# Altium footprint library RAM3001.PcbLib: 12 footprints
Each footprint in its own frame and in the unit in brackets; x right, y up, seen from the top. Pads: shape width x height; smd on the part's side, far side on the other; paste and mask are expansions set on the pad; w line width, h text height; cw(c..) or ccw(c..) is an arc to the next point about the centre after c.
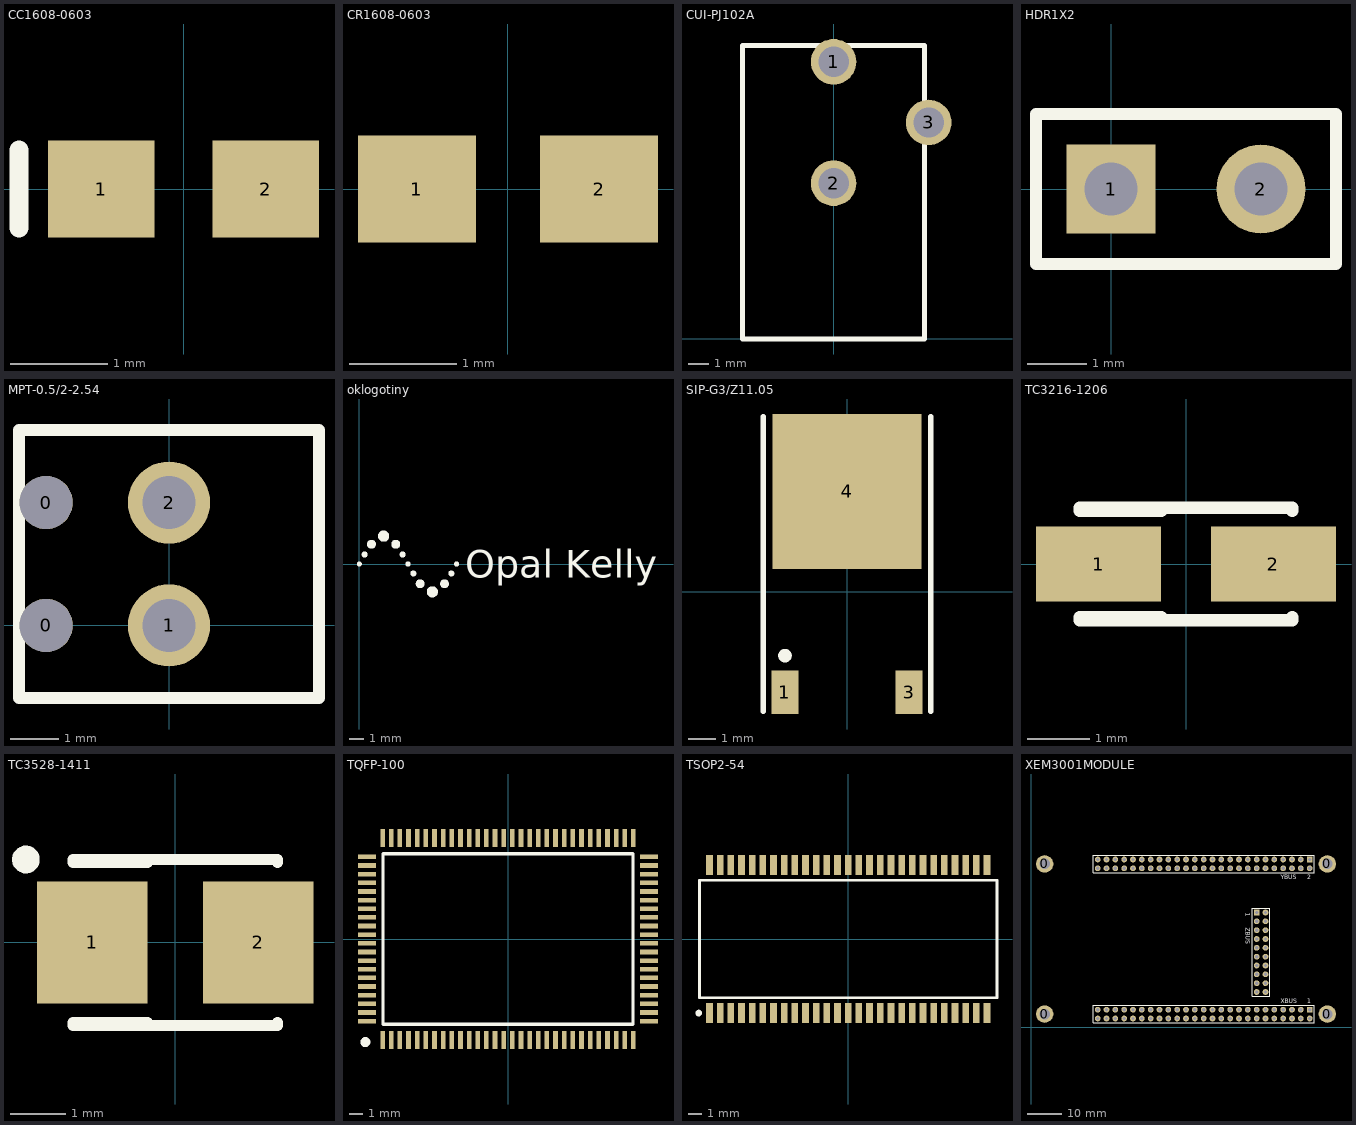
[diagram p0: the footprints below, top view; thin cyan lines are the x and y axes]

## CC1608-0603 [mm]
pads (2):
  rect 1.1x1 smd: 1(-0.85,0) 2(0.85,0)
Top Overlay:
  lines w0.2: -1.7,-0.4 -1.7,0.4

## CR1608-0603 [mm]
pads (2):
  rect 1.1x1 smd: 1(-0.85,0) 2(0.85,0)

## CUI-PJ102A [mm]
pads (3):
  round 2.25 hole 1.5: 1(0,13.7) 2(0,7.7) 3(4.7,10.7)
Top Overlay:
  lines w0.254: -4.5,0 4.5,0 4.5,14.5 -4.5,14.5 -4.5,0

## HDR1X2 [mm]
pads (2):
  rect 1.5x1.5 hole 0.9: 1(0,0)
  round 1.5 hole 0.9: 2(2.54,0)
Top Overlay:
  lines w0.2: -1.27,-1.27 3.81,-1.27 3.81,1.27 -1.27,1.27 -1.27,-1.27

## MPT-0.5/2-2.54 [mm]
pads (4):
  round 1.1 hole 1.1: 0(-2.54,0) 0(-2.54,2.54)
  round 1.7 hole 1.1: 1(0,0) 2(0,2.54)
Top Overlay:
  lines w0.254: -3.1,-1.5 -3.1,4.04 3.1,4.04 3.1,-1.5 -3.1,-1.5

## oklogotiny [mm]
Top Overlay:
  circle w0.21: c6.301,-0.648 r0.105
  circle w0.21: c3.7,-0.648 r0.105
  circle w0.21: c2.967,0.648 r0.105
  circle w0.305: c5.834,-1.353 r0.152
  circle w0.305: c4.167,-1.353 r0.152
  circle w0.305: c2.5,1.353 r0.152
  circle w0.381: c5.001,-1.905 r0.191
  circle w0.171: c6.667,0 r0.086
  circle w0.171: c3.334,0 r0.086
  circle w0.381: c1.667,1.905 r0.191
  circle w0.305: c0.833,1.353 r0.152
  circle w0.21: c0.367,0.648 r0.105
  circle w0.171: c0,0 r0.086
  text "Opal Kelly" at 7.239,-0.953 h1.91

## SIP-G3/Z11.05 [mm]
pads (3):
  rect 1x1.6 smd: 1(-2.285,-3.7) 3(2.285,-3.7)
  rect 5.5x5.7 smd: 4(0,3.7)
Top Overlay:
  circle w0.25: c-2.285,-2.35 r0.125
  lines w0.2: -3.085,-4.4 -3.085,6.45 ; 3.085,-4.4 3.085,6.45
3D body: height 2.38, standoff 0, extent -3.3,-1.35 3.3,4.75

## TC3216-1206 [mm]
pads (2):
  rect 2x1.2 smd: 1(-1.4,0) 2(1.4,0)
Top Overlay:
  lines w0.2: -1.7,-0.9 1.7,-0.9 1.7,-0.85 ; -1.7,-0.85 -0.4,-0.85 ; -1.7,0.85 -0.4,0.85 ; -1.7,0.9 1.7,0.9 1.7,0.85

## TC3528-1411 [mm]
pads (2):
  rect 2x2.2 smd: 1(-1.5,0) 2(1.5,0)
Top Overlay:
  circle w0.25: c-2.7,1.5 r0.125
  lines w0.2: -1.85,-1.5 1.85,-1.5 1.85,-1.45 ; -1.85,-1.45 -0.5,-1.45 ; -1.85,1.45 -0.5,1.45 ; -1.85,1.5 1.85,1.5 1.85,1.45

## TQFP-100 [mm]
pads (100):
  rect 0.35x1.35 smd: 1(-9.425,-7.6) 2(-8.775,-7.6) 3(-8.125,-7.6) 4(-7.475,-7.6) 5(-6.825,-7.6) 6(-6.175,-7.6) 7(-5.525,-7.6) 8(-4.875,-7.6) 9(-4.225,-7.6) 10(-3.575,-7.6) 11(-2.925,-7.6) 12(-2.275,-7.6) 13(-1.625,-7.6) 14(-0.975,-7.6) 15(-0.325,-7.6) 16(0.325,-7.6) 17(0.975,-7.6) 18(1.625,-7.6) 19(2.275,-7.6) 20(2.925,-7.6) 21(3.575,-7.6) 22(4.225,-7.6) 23(4.875,-7.6) 24(5.525,-7.6) 25(6.175,-7.6) 26(6.825,-7.6) 27(7.475,-7.6) 28(8.125,-7.6) 29(8.775,-7.6) 30(9.425,-7.6) 51(9.425,7.6) 52(8.775,7.6) 53(8.125,7.6) 54(7.475,7.6) 55(6.825,7.6) 56(6.175,7.6) 57(5.525,7.6) 58(4.875,7.6) 59(4.225,7.6) 60(3.575,7.6) 61(2.925,7.6) 62(2.275,7.6) 63(1.625,7.6) 64(0.975,7.6) 65(0.325,7.6) 66(-0.325,7.6) 67(-0.975,7.6) 68(-1.625,7.6) 69(-2.275,7.6) 70(-2.925,7.6) 71(-3.575,7.6) 72(-4.225,7.6) 73(-4.875,7.6) 74(-5.525,7.6) 75(-6.175,7.6) 76(-6.825,7.6) 77(-7.475,7.6) 78(-8.125,7.6) 79(-8.775,7.6) 80(-9.425,7.6)
  rect 1.35x0.35 smd: 31(10.6,-6.175) 32(10.6,-5.525) 33(10.6,-4.875) 34(10.6,-4.225) 35(10.6,-3.575) 36(10.6,-2.925) 37(10.6,-2.275) 38(10.6,-1.625) 39(10.6,-0.975) 40(10.6,-0.325) 41(10.6,0.325) 42(10.6,0.975) 43(10.6,1.625) 44(10.6,2.275) 45(10.6,2.925) 46(10.6,3.575) 47(10.6,4.225) 48(10.6,4.875) 49(10.6,5.525) 50(10.6,6.175) 81(-10.6,6.175) 82(-10.6,5.525) 83(-10.6,4.875) 84(-10.6,4.225) 85(-10.6,3.575) 86(-10.6,2.925) 87(-10.6,2.275) 88(-10.6,1.625) 89(-10.6,0.975) 90(-10.6,0.325) 91(-10.6,-0.325) 92(-10.6,-0.975) 93(-10.6,-1.625) 94(-10.6,-2.275) 95(-10.6,-2.925) 96(-10.6,-3.575) 97(-10.6,-4.225) 98(-10.6,-4.875) 99(-10.6,-5.525) 100(-10.6,-6.175)
Top Overlay:
  circle w0.5: c-10.725,-7.75 r0.125
  lines w0.254: -9.4,-6.4 9.4,-6.4 9.4,6.4 -9.4,6.4 -9.4,-6.4

## TSOP2-54 [mm]
pads (54):
  rect 0.5x1.5 smd: 1(-10.4,-5.55) 2(-9.6,-5.55) 3(-8.8,-5.55) 4(-8,-5.55) 5(-7.2,-5.55) 6(-6.4,-5.55) 7(-5.6,-5.55) 8(-4.8,-5.55) 9(-4,-5.55) 10(-3.2,-5.55) 11(-2.4,-5.55) 12(-1.6,-5.55) 13(-0.8,-5.55) 14(0,-5.55) 15(0.8,-5.55) 16(1.6,-5.55) 17(2.4,-5.55) 18(3.2,-5.55) 19(4,-5.55) 20(4.8,-5.55) 21(5.6,-5.55) 22(6.4,-5.55) 23(7.2,-5.55) 24(8,-5.55) 25(8.8,-5.55) 26(9.6,-5.55) 27(10.4,-5.55) 28(10.4,5.55) 29(9.6,5.55) 30(8.8,5.55) 31(8,5.55) 32(7.2,5.55) 33(6.4,5.55) 34(5.6,5.55) 35(4.8,5.55) 36(4,5.55) 37(3.2,5.55) 38(2.4,5.55) 39(1.6,5.55) 40(0.8,5.55) 41(0,5.55) 42(-0.8,5.55) 43(-1.6,5.55) 44(-2.4,5.55) 45(-3.2,5.55) 46(-4,5.55) 47(-4.8,5.55) 48(-5.6,5.55) 49(-6.4,5.55) 50(-7.2,5.55) 51(-8,5.55) 52(-8.8,5.55) 53(-9.6,5.55) 54(-10.4,5.55)
Top Overlay:
  circle w0.25: c-11.21,-5.55 r0.125
  lines w0.2: -11.15,-4.4 -11.15,-0.635 -11.15,4.4 11.15,4.4 11.15,-4.4 -11.15,-4.4

## XEM3001MODULE [mil]
pads (124):
  round 196.85 hole 118.11: 0(150,150) 0(150,1850) 0(3350,150) 0(3350,1850)
  rect 65x65 hole 38: X1(3150,200) Y1(3150,1900) Z1(2550,1300)
  round 65 hole 38: X2(3150,100) X3(3050,200) X4(3050,100) X5(2950,200) X6(2950,100) X7(2850,200) X8(2850,100) X9(2750,200) X10(2750,100) X11(2650,200) X12(2650,100) X13(2550,200) X14(2550,100) X15(2450,200) X16(2450,100) X17(2350,200) X18(2350,100) X19(2250,200) X20(2250,100) X21(2150,200) X22(2150,100) X23(2050,200) X24(2050,100) X25(1950,200) X26(1950,100) X27(1850,200) X28(1850,100) X29(1750,200) X30(1750,100) X31(1650,200) X32(1650,100) X33(1550,200) X34(1550,100) X35(1450,200) X36(1450,100) X37(1350,200) X38(1350,100) X39(1250,200) X40(1250,100) X41(1150,200) X42(1150,100) X43(1050,200) X44(1050,100) X45(950,200) X46(950,100) X47(850,200) X48(850,100) X49(750,200) X50(750,100) Y2(3150,1800) Y3(3050,1900) Y4(3050,1800) Y5(2950,1900) Y6(2950,1800) Y7(2850,1900) Y8(2850,1800) Y9(2750,1900) Y10(2750,1800) Y11(2650,1900) Y12(2650,1800) Y13(2550,1900) Y14(2550,1800) Y15(2450,1900) Y16(2450,1800) Y17(2350,1900) Y18(2350,1800) Y19(2250,1900) Y20(2250,1800) Y21(2150,1900) Y22(2150,1800) Y23(2050,1900) Y24(2050,1800) Y25(1950,1900) Y26(1950,1800) Y27(1850,1900) Y28(1850,1800) Y29(1750,1900) Y30(1750,1800) Y31(1650,1900) Y32(1650,1800) Y33(1550,1900) Y34(1550,1800) Y35(1450,1900) Y36(1450,1800) Y37(1350,1900) Y38(1350,1800) Y39(1250,1900) Y40(1250,1800) Y41(1150,1900) Y42(1150,1800) Y43(1050,1900) Y44(1050,1800) Y45(950,1900) Y46(950,1800) Y47(850,1900) Y48(850,1800) Y49(750,1900) Y50(750,1800) Z2(2650,1300) Z3(2550,1200) Z4(2650,1200) Z5(2550,1100) Z6(2650,1100) Z7(2550,1000) Z8(2650,1000) Z9(2550,900) Z10(2650,900) Z11(2550,800) Z12(2650,800) Z13(2550,700) Z14(2650,700) Z15(2550,600) Z16(2650,600) Z17(2550,500) Z18(2650,500) Z19(2550,400) Z20(2650,400)
Top Overlay:
  lines w10: 700,50 700,250 3200,250 3200,50 700,50 ; 700,1750 700,1950 3200,1950 3200,1750 700,1750 ; 2500,350 2500,1350 2700,1350 2700,350 2500,350
  text "XBUS" at 2825,275 h50
  text "YBUS" at 2825,1675 h50
  text "1" at 3125,275 h50
  text "2" at 3125,1675 h50
  text "1" at 2425,1300 h50
  text "ZBUS" at 2425,1125 h50